# Altium schematic symbol library B-NT_CHIPS.SchLib: 157 symbols (part 4 of 4)
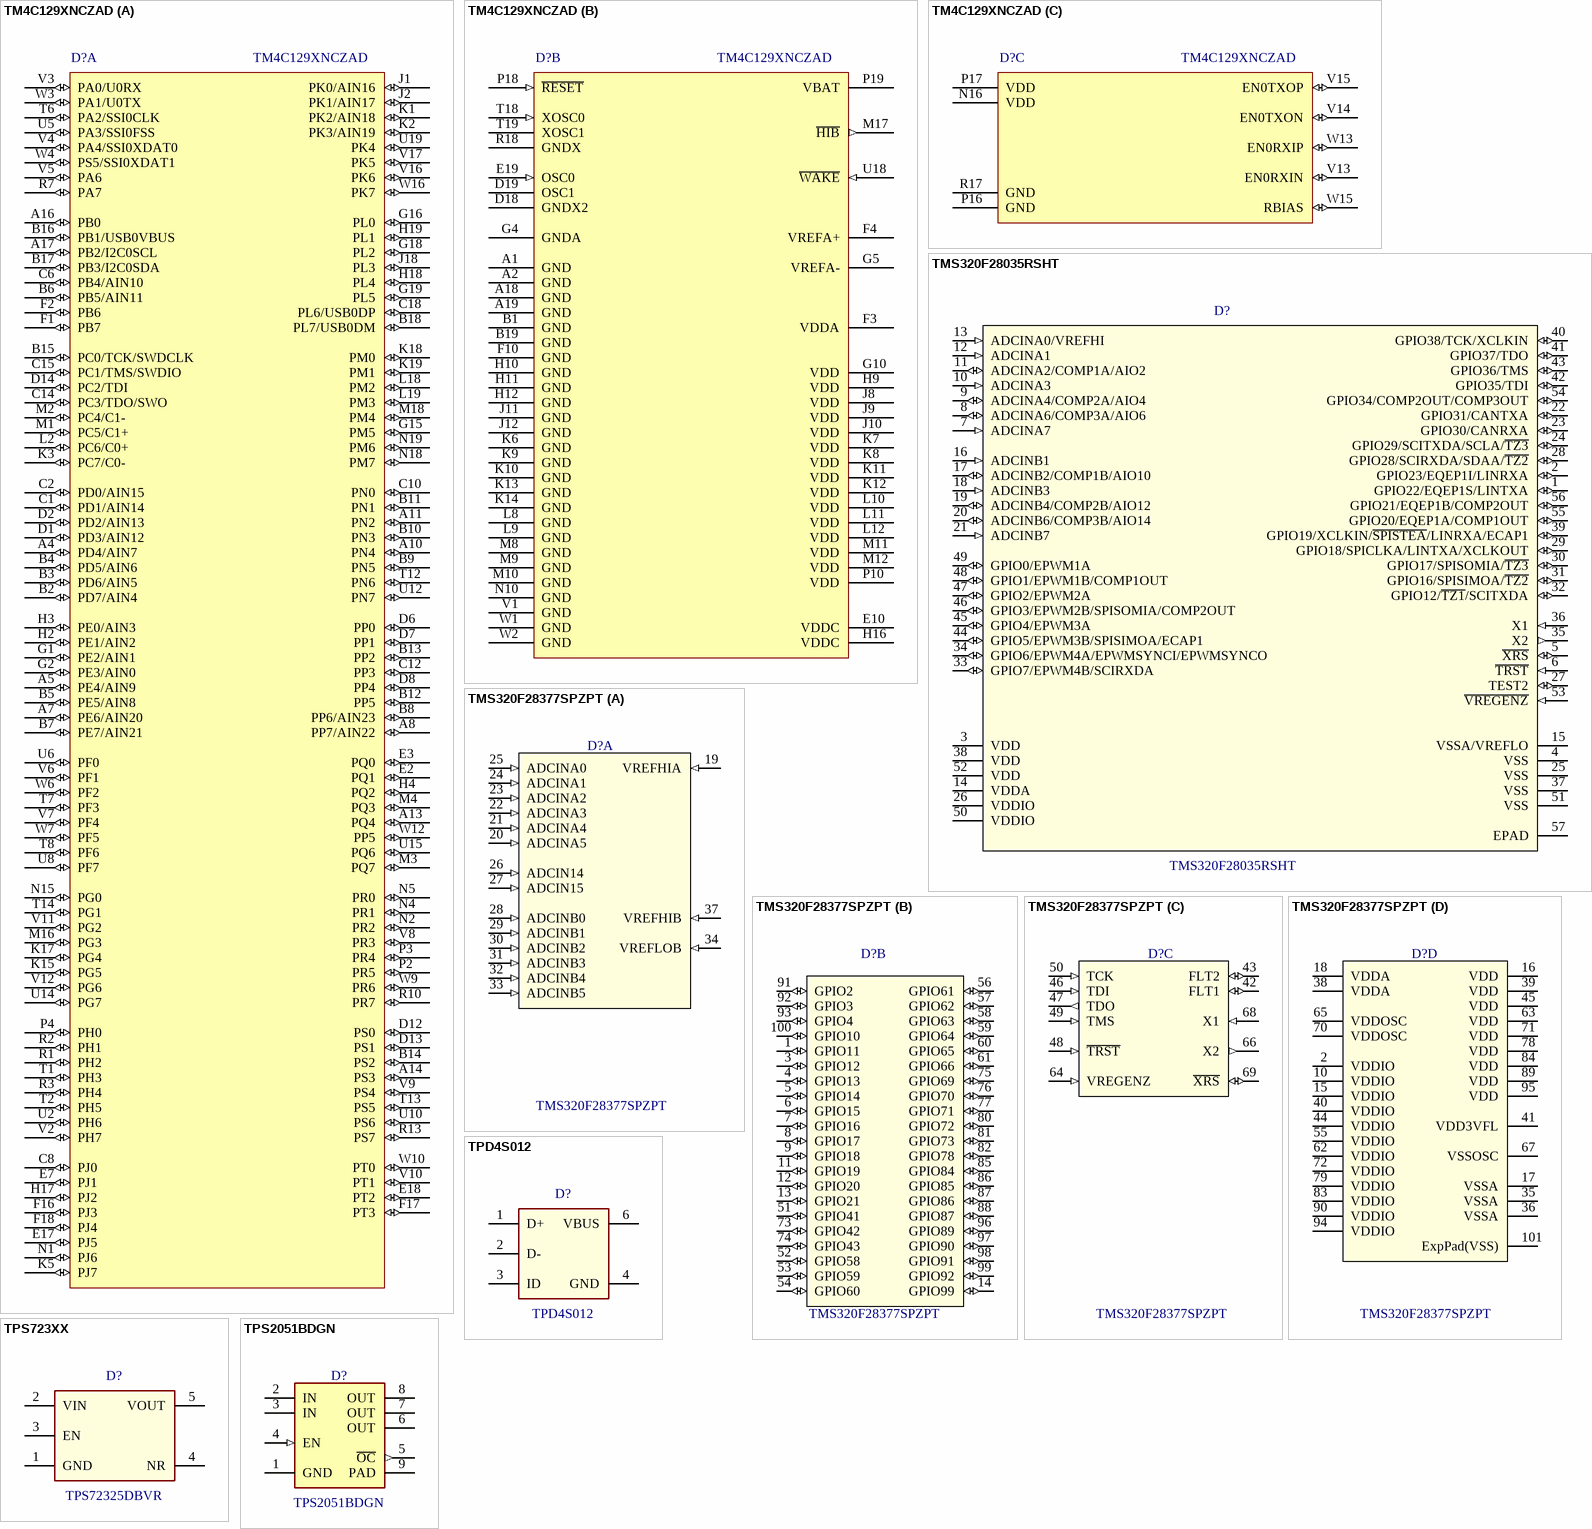
[diagram p12: symbols TM4C129XNCZAD to TPS2051BDGN]

## TMS320F28377SPZPT
designator D?  value TMS320F28377SPZPT
IC MCU 32BIT 1MB FLASH 100HTQFP; ValueManufacturer: Texas Instrument; PowerVoltage: 1.14 V ~ 3.47 V; ValueDescription: TMS320F28377SPZPT Микроконтроллер 1.14 V ~ 3.47 V  100-HTQFP (14x14); ValueType: Microcontroller; Price: 23.81; ComponentLink1Description: TI Datasheet; ComponentLink1URL: http://www.ti.com/lit/ds/symlink/tms320f28377s.pdf; Package: 100-HTQFP (14x14); ValueManufacturerPartNumber: TMS320F28377SPZPT; Operating Temperature: -40°C ~ 105°C (TJ); CheckDate: SC *
footprint PZP0100N_N
part A pins: 19 VREFHIA (in), 20 ADCINA5 (in), 21 ADCINA4 (in), 22 ADCINA3 (in), 23 ADCINA2 (in), 24 ADCINA1 (in), 25 ADCINA0 (in), 26 ADCIN14 (in), 27 ADCIN15 (in), 28 ADCINB0 (in), 29 ADCINB1 (in), 30 ADCINB2 (in), 31 ADCINB3 (in), 32 ADCINB4 (in), 33 ADCINB5 (in), 34 VREFLOB (in), 37 VREFHIB (in)
part B pins: 1 GPIO11 (io), 3 GPIO12 (io), 4 GPIO13 (io), 5 GPIO14 (io), 6 GPIO15 (io), 7 GPIO16 (io), 8 GPIO17 (io), 9 GPIO18 (io), 11 GPIO19 (io), 12 GPIO20 (io), 13 GPIO21 (io), 14 GPIO99 (io), 51 GPIO41 (io), 52 GPIO58 (io), 53 GPIO59 (io), 54 GPIO60 (io), 56 GPIO61 (io), 57 GPIO62 (io), 58 GPIO63 (io), 59 GPIO64 (io), 60 GPIO65 (io), 61 GPIO66 (io), 73 GPIO42 (io), 74 GPIO43 (io), 75 GPIO69 (io), 76 GPIO70 (io), 77 GPIO71 (io), 80 GPIO72 (io), 81 GPIO73 (io), 82 GPIO78 (io), 85 GPIO84 (io), 86 GPIO85 (io), 87 GPIO86 (io), 88 GPIO87 (io), 91 GPIO2 (io), 92 GPIO3 (io), 93 GPIO4 (io), 96 GPIO89 (io), 97 GPIO90 (io), 98 GPIO91 (io), 99 GPIO92 (io), 100 GPIO10 (io)
part C pins: 42 FLT1 (io), 43 FLT2 (io), 46 TDI (in), 47 TDO (out), 48 ~{TRST} (in), 49 TMS (in), 50 TCK (in), 64 VREGENZ (in), 66 X2 (out), 68 X1 (in), 69 ~{XRS} (io)
part D pins: 2 VDDIO (power), 10 VDDIO (power), 15 VDDIO (power), 16 VDD (power), 17 VSSA (power), 18 VDDA (power), 35 VSSA (power), 36 VSSA (power), 38 VDDA (power), 39 VDD (power), 40 VDDIO (power), 41 VDD3VFL (power), 44 VDDIO (power), 45 VDD (power), 55 VDDIO (power), 62 VDDIO (power), 63 VDD (power), 65 VDDOSC (power), 67 VSSOSC (power), 70 VDDOSC (power), 71 VDD (power), 72 VDDIO (power), 78 VDD (power), 79 VDDIO (power), 83 VDDIO (power), 84 VDD (power), 89 VDD (power), 90 VDDIO (power), 94 VDDIO (power), 95 VDD (power), 101 ExpPad(VSS) (power)

## TPD4S012
designator D?  value TPD4S012
4CH ESD SOLUTION W/CLAMP 6SON; ValueManufacturer: Texas Instruments; PowerVoltage: 6V; ValueDescription: TPD4S012  Выключатель нагрузки 6V  SSOT-6L (TSOT-23-6); ValueType: Load switch; Price: 0.77; ComponentLink1Description: Texas Instruments datasheet; ComponentLink1URL: http://www.ti.com/lit/ds/symlink/tpd4s012.pdf; Package: SSOT-6L (TSOT-23-6); ValueManufacturerPartNumber: TPD4S012; Operating Temperature: -40°C~85°C; CheckDate: SC
footprint DFN-6-1X1.45-0.5
pins: 1 D+, 2 D-, 3 ID, 4 GND, 6 VBUS

## TPS723XX
designator D?  value TPS72325DBVR
LDO Neg 200MA VINmIN=--10V SOT-23-5; ValueManufacturer: Texas Instrument; PowerVoltage: 250mA; TechSpec: -10V min; ValueDescription: TPS72325DBVR Линейный преобразователь 250mA  SOT-23-5 (SOT-753)  -10V min; ValueType: Linear Voltage Regulator; Price: 2.8; ComponentLink1Description: Texas Instrument Datasheet; ComponentLink1URL: http://www.ti.com/lit/ds/symlink/tps723.pdf; Package: SOT-23-5 (SOT-753); ValueManufacturerPartNumber: TPS72325DBVR; Operating Temperature: -40°C~85°C; CheckDate: SC 19.02.18
footprint SOT23-5-1.6X2.9-0.95 (SOT, 6-Leads, Body 2,9x1,6mm, Pitch 0,95mm)
pins: 1 GND, 2 VIN, 3 EN, 4 NR, 5 VOUT

## TPS2051BDGN
designator D?  value TPS2051BDGN
POWER SWITCH 0.5A SW 8-MSOP; ValueManufacturer: Texas Instruments; PowerVoltage: 2.7V~5.5V; ValueDescription: TPS2051BDGN Цифровой термодатчик  2.7V~5.5V  8-TSSOP (3.00mm); ValueType: Current Sense; Price: 1.55; ComponentLink1Description: Texas Instruments Datasheet; ComponentLink1URL: http://www.ti.com/lit/ds/symlink/tps2051b.pdf; Package: 8-TSSOP (3.00mm); ValueManufacturerPartNumber: TPS2051BDGN; Operating Temperature: -40°C~125°C; CheckDate: SC 21.10.17
footprint SSOP-8-3X3-0.65-T (MSOP, 8-Leads, Body 3,00x3,00mm, Pitch 0,65mm, IPC Medium Density)
pins: 1 GND, 2 IN, 3 IN, 4 EN (in), 5 ~{OC} (out), 6 OUT "Power", 7 OUT "Power", 8 OUT "Overtemperature Shutdown output", 9 PAD

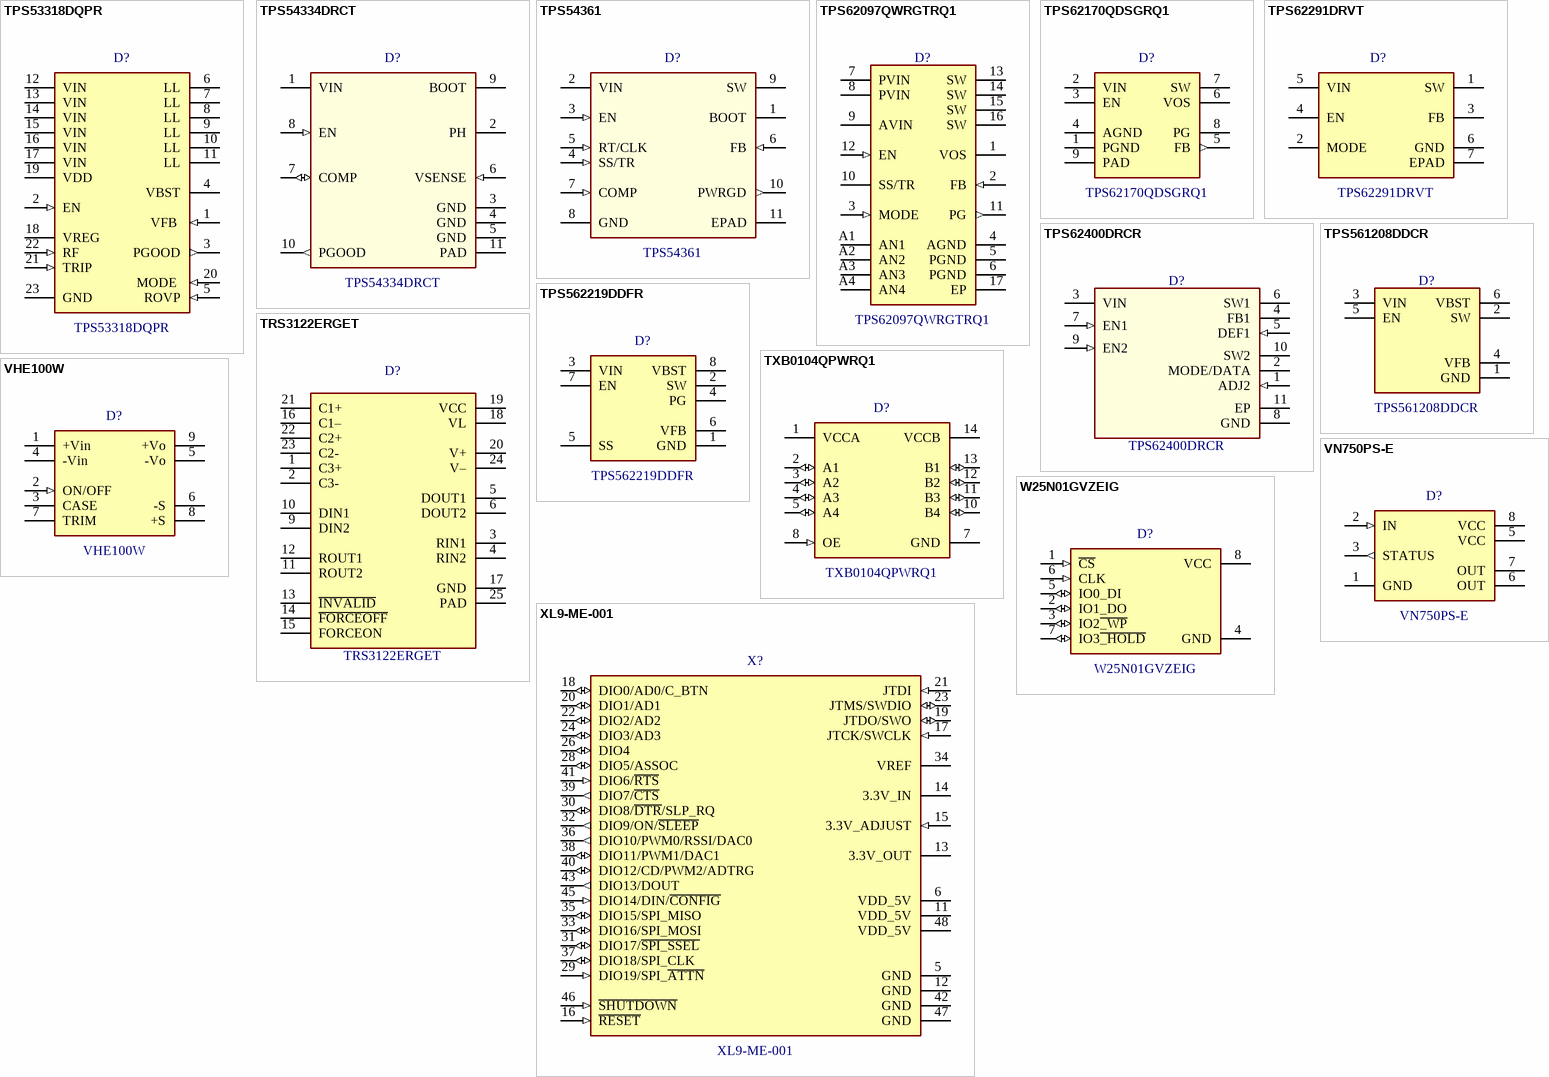
[diagram p9: symbols TPS53318DQPR to XL9-ME-001]

## TPS53318DQPR
designator D?  value TPS53318DQPR
IC REG BUCK ADJ 8A SYNC 22SON; ValueManufacturer: Texas Instruments; PowerVoltage: 0.6 V ~ 5.5 V; ValueDescription: TPS53318DQPR DC-DC преобразователь 0.6 V ~ 5.5 V  22-LSON (6x5); ValueType: DC DC Switching Regulator; Price: 6.47; ComponentLink1Description: Texas Instruments Datasheet; ComponentLink1URL: http://www.ti.com/lit/ds/symlink/tps53319.pdf; Package: 22-LSON (6x5); ValueManufacturerPartNumber: TPS53318DQPR; Operating Temperature: -40°C ~ 85°C (TA); CheckDate: SC *
footprint DFN-22-5X6-0.5-T (22-LFDFN Exposed Pad(22-LSON (6x5)))
pins: 1 VFB  (in), 2 EN (in), 3 PGOOD (out), 4 VBST, 5 ROVP (in), 6 LL, 7 LL, 8 LL, 9 LL, 10 LL, 11 LL, 12 VIN, 13 VIN, 14 VIN, 15 VIN, 16 VIN, 17 VIN, 18 VREG, 19 VDD , 20 MODE  (in), 21 TRIP  (in), 22 RF  (in), 23 GND

## TPS54334DRCT
designator D?  value TPS54334DRCT
Step Down 4.2V~28V Input voltage 3A 570kHz; ValueManufacturer: Texas Instruments; PowerVoltage: 4.2V~28V 3A; ValueDescription: TPS54334DRCT  Преобразователь напряжения 4.2V~28V 3A  10-VSON EP (3x3mm); ValueType: Power Management; Price: 2.8; ComponentLink1Description: Texas Instruments Datasheet; ComponentLink1URL: http://www.ti.com/lit/ds/symlink/tps54334.pdf; Package: 10-VSON EP (3x3mm); ValueManufacturerPartNumber: TPS54334DRCT; Operating Temperature: -40°C~85°C; CheckDate: SC 19.12.16
footprint SON-10-3X3-0.5-T-SPECIAL
pins: 1 VIN, 2 PH, 3 GND, 4 GND, 5 GND, 6 VSENSE (in), 7 COMP (io), 8 EN (in), 9 BOOT, 10 PGOOD (out), 11 PAD

## TPS54361
designator D?  value TPS54361
Step Down 4.2V~60V 3.5A 2.5MHz 10-WSON Exposed Pad; ValueManufacturer: Texas Instruments; ValueDescription: TPS54361  Преобразователь напряжения 4.2V~60V 3.5A  10-WSON EP (4x4mm); ValueType: Power Management; Price: 4.91; ComponentLink1Description: Texas Instruments Datasheet; ComponentLink1URL: http://www.ti.com/lit/ds/symlink/tps54361.pdf; Package: 10-WSON EP (4x4mm); PowerVoltage: 4.2V~60V 3.5A; ValueManufacturerPartNumber: TPS54361; Operating Temperature: -40°C~85°C; CheckDate: SC 22.10.17
footprint SON-10-4X4-0.8-T
pins: 1 BOOT, 2 VIN, 3 EN (in), 4 SS/TR (in), 5 RT/CLK (in), 6 FB (in), 7 COMP (in), 8 GND, 9 SW, 10 PWRGD (out), 11 EPAD

## TPS62097QWRGTRQ1
designator D?  value TPS62097QWRGTRQ1
Switching Voltage Regulators 2A Automotive Step-Down Converter in 3x3 QFN With Wettable Flanks; ValueManufacturer: Texas Instruments; PowerVoltage: 0.8V~6V; ValueDescription: TPS62097QWRGTRQ1 Регулятор напряжения  0.8V~6V  VQFN-16; Price: 3.44; ComponentLink1Description: Texas Instruments Datasheet; ComponentLink1URL: http://www.ti.com/lit/ds/symlink/tps62097-q1.pdf; Package: VQFN-16; ValueManufacturerPartNumber: TPS62097QWRGTRQ1; ValueType: Voltage Regulators; Operating Temperature: -40°C~125°C; CheckDate: delete
footprint VQFN-16-(4X4)-1 (Body 3.1x3.1x1mm(max))
pins: 1 VOS, 2 FB (in), 3 MODE (in), 4 AGND, 5 PGND, 6 PGND, 7 PVIN, 8 PVIN, 9 AVIN, 10 SS/TR, 11 PG (out), 12 EN (in), 13 SW, 14 SW, 15 SW, 16 SW, 17 EP, А1 AN1, А2 AN2, А3 AN3, А4 AN4

## TPS62170QDSGRQ1
designator D?  value TPS62170QDSGRQ1
IC REG BUCK ADJ 0.5A SYNC 8WSON; ValueManufacturer: Texas Instruments; PowerVoltage: 3V~17V; ValueDescription: TPS62170QDSGRQ1 Регулятор напряжения  3V~17V  8-WFDFN Exposed Pad; ValueType: Voltage Regulators; Price: 1.55; ComponentLink1Description: Texas Instruments Datasheet; ComponentLink1URL: http://www.ti.com/lit/ds/symlink/tps62170-q1.pdf; Package: 8-WFDFN Exposed Pad; ValueManufacturerPartNumber: TPS62170QDSGRQ1; Operating Temperature: -40°C~125°C; CheckDate: SC *
footprint SON-8-2X2-0.5-T
pins: 1 PGND, 2 VIN, 3 EN, 4 AGND, 5 FB (out), 6 VOS "Power", 7 SW "Overtemperature Shutdown output", 8 PG "Power", 9 PAD

## TPS62291DRVT
designator D?  value TPS62291DRVT
REG BUCK 3.3V 1A SYNC 6SON; ValueManufacturer: Texas Instruments; PowerVoltage: 2.3V~6V; ValueDescription: TPS62291DRVT  Преобразователь напряжения 2.3V~6V  6-SON; ValueType: Power Management; Price: 2.25; ComponentLink1Description: TI Datasheet; ComponentLink1URL: http://www.ti.com/lit/ds/symlink/tps62293.pdf; Package: 6-SON; Tolerance: 1A; ValueManufacturerPartNumber: TPS62291DRVT; Operating Temperature: -40°C~85°C; CheckDate: SC 21.10.17
footprint SON-6-2X2-0.65-T (SON, 6-Leads, Body 2,00x2,00mm, Pitch 0,65mm, Thermal Pad 1,60x0,89mm, IPC Medium Density)
pins: 1 SW, 2 MODE, 3 FB, 4 EN, 5 VIN, 6 GND, 7 EPAD

## TPS62400DRCR
designator D?  value TPS62400DRCR
IC REG BUCK ADJ DL SYNC 10SON; ValueManufacturer: Texas Instruments; PowerVoltage: 2.5V~6V, 400mA; ValueDescription: TPS62400DRCR  Преобразователь напряжения 2.5V~6V, 400mA  10-VSON (3x3); ValueType: DC DC Switching Regulator; Price: 1.79; ComponentLink1Description: Texas Instruments Datasheet; ComponentLink1URL: http://www.ti.com/lit/ds/symlink/tps62400.pdf; Package: 10-VSON (3x3); ValueManufacturerPartNumber: TPS62400DRCR; Operating Temperature: -40°C~85°C; CheckDate: SC *
footprint SON-10-3X3-0.5-T-SPECIAL
pins: 1 ADJ2 (in), 2 MODE/DATA, 3 VIN, 4 FB1, 5 DEF1 (in), 6 SW1, 7 EN1 (in), 8 GND, 9 EN2 (in), 10 SW2, 11 EP

## TPS561208DDCR
designator D?  value TPS561208DDCR
Switching Regulator IC Output TSOT-23-6; ValueManufacturer: Texas Instruments; PowerVoltage: 4.5V~17V; ValueDescription: TPS561208DDCR  Преобразователь напряжения 4.5V~17V  SOT-23-6 Thin, TSOT-23-6; ValueType: DC DC Switching Regulator; Price: 0.83; ComponentLink1Description: Texas Instruments Datasheet; ComponentLink1URL: http://www.ti.com/general/docs/lit/getliterature.tsp?genericPartNumber=tps561208&fileType=pdf; Package: SOT-23-6 Thin, TSOT-23-6; ValueManufacturerPartNumber: TPS561208DDCR; Operating Temperature: -40°C ~ 85°C (TA); CheckDate: SC *
footprint SOT23-6-1.6X2.9-0.95 (SOT, 6-Leads, Body 2,9x1,6mm, Pitch 0,95mm)
pins: 1 GND (power), 2 SW, 3 VIN, 4 VFB, 5 EN, 6 VBST

## TPS562219DDFR
designator D?  value TPS562219DDFR
IC REG BUCK ADJ 2A SYNC SOT23-8; ValueManufacturer: Texas Instruments; PowerVoltage: 4.5V~17V; ValueDescription: TPS562219DDFR  Преобразователь напряжения 4.5V~17V  SOT-23-8 Thin, TSOT-23-8; ValueType: DC DC Switching Regulator; Price: 1.61000; ComponentLink1Description: Texas Instruments Datasheet; ComponentLink1URL: http://www.ti.com/lit/ds/symlink/tps562219.pdf; Package: SOT-23-8 Thin, TSOT-23-8; ValueManufacturerPartNumber: TPS562219DDFR; Operating Temperature: -40°C ~ 85°C (TA); CheckDate: SC *
footprint SOT23-8-1.65X2.95-0.65 (SOT23, 8-Leads, Body 2,95x1,65mm, Pitch 0,65mm, IPC Medium Density)
pins: 1 GND (power), 2 SW, 3 VIN, 4 PG, 5 SS, 6 VFB, 7 EN, 8 VBST

## TRS3122ERGET
designator D?  value TRS3122ERGET
IC TXRX RS232 1.8V 24VQFN; ValueManufacturer: Texas Instruments; PowerVoltage: 1.65 V ~ 5.5 V; ValueDescription: TRS3122ERGET Приемопередатчик 1.65 V ~ 5.5 V  24-VQFN (4x4); ValueType: Transceiver; Price: 2.84; ComponentLink1Description: Texas Instruments Datasheet; ComponentLink1URL: http://www.ti.com/lit/ds/symlink/trs3122e.pdf; Package: 24-VQFN (4x4); ValueManufacturerPartNumber: TRS3122ERGET; Operating Temperature: -40°C ~ 85°C; CheckDate: SC *
footprint VQFN-24-4X4-0.5-T (QFN, 24-Leads with exposed die pad, Body 4.1x4.1mm (max), Pitch 0.50mm)
pins: 1 C3+, 2 C3- , 3 RIN1, 4 RIN2, 5 DOUT1, 6 DOUT2, 9 DIN2, 10 DIN1, 11 ROUT2, 12 ROUT1, 13 ~{INVALID}, 14 ~{FORCEOFF}, 15 FORCEON , 16 C1–, 17 GND, 18 VL, 19 VCC, 20 V+, 21 C1+, 22 C2+, 23 C2-, 24 V–, 25 PAD

## TXB0104QPWRQ1
designator D?  value TXB0104QPWRQ1
IC VOLT-LEVEL TRANSLATOR 14TSSOP; ValueManufacturer: Texas Instruments; PowerVoltage: 1.2V~3.6V / 1.65V~5.5V; ValueDescription: TXB0104QPWRQ1 Преобразователь логических уровней Texas Instruments  1.2V~3.6V / 1.65V~5.5V; ValueType: Level Converter; Price: 1.55; ComponentLink1Description: Texas Instruments Datasheet; ComponentLink1URL: http://www.ti.com/lit/ds/symlink/txb0104-q1.pdf; Package: 14-TSSOP (6.4x4.4x1.2mm); ValueManufacturerPartNumber: TXB0104QPWRQ1; Operating Temperature: -40°C~125°C; CheckDate: SC *
footprint TSSOP-14-4.4X5-0.65
pins: 1 VCCA, 2 A1 (io), 3 A2 (io), 4 A3 (io), 5 A4 (io), 7 GND, 8 OE (in), 10 B4 (io), 11 B3 (io), 12 B2 (io), 13 B1 (io), 14 VCCB

## VHE100W
designator D?  value VHE100W
Isolated DC/DC Module 100W; ValueManufacturer: CUI Inc.; Tolerance: 88.5%; ValueDescription: VHE100W Преобразователь напряжения CUI Inc.  100W; ValueType: DC-DC; Price: 170; ComponentLink1Description: CUI Inc Datasheet; ComponentLink1URL: http://www.cui.com/product/resource/vhe100w.pdf; Package: 8-DIP (58.4x22.8x8.9); PowerVoltage: 100W; ValueManufacturerPartNumber: VHE100W; Operating Temperature: -40°C~105°C; CheckDate: SC *
footprint VHE100W ((61.0mm x 57.9mm x 12.7mm))
pins: 1 +Vin, 2 ON/OFF (in), 3 CASE, 4 -Vin, 5 -Vo, 6 -S, 7 TRIM, 8 +S, 9 +Vo

## VN750PS-E
designator D?  value VN750PS-E
DRIVER HIGHSIDE 8-SOIC; ValueManufacturer: STMicroelectronics; PowerVoltage: 5.5-36V; Tolerance: 6A; ValueDescription: VN750PS-E Цифровой силовой ключ 5.5-36V  8-SOIC (3.90mm); ValueType: High-side driver; Price: 1.83; ComponentLink1Description: STMicroelectronics Datasheet; ComponentLink1URL: http://www.st.com/content/ccc/resource/technical/document/datasheet/36/97/9d/05/ce/5b/49/c2/CD00256288.pdf/files/CD00256288.pdf/jcr:content/translations/en.CD00256288.pdf; Package: 8-SOIC (3.90mm); ValueManufacturerPartNumber: VN750PS-E; Operating Temperature: -40°C~150°C; CheckDate: SC 21.10.17
footprint SOP-8-3.9X5-1.27 (SOIC, 8-Leads, Body 5x4mm, Pitch 1.27mm, IPC Medium Density)
pins: 1 GND "Ground", 2 IN (in) "Input", 3 STATUS (out) "Status", 5 VCC "Power", 6 OUT "Output", 7 OUT "Output", 8 VCC "Power"

## W25N01GVZEIG
designator D?  value W25N01GVZEIG
FLASH 1GBIT 104MHZ 8-WDFN Exposed Pad; ValueManufacturer: Winbond Electronics; PowerVoltage: 2.7V~3.6V; TechSpec: 1Gb; ValueDescription: W25N01GVZEIG Flash Память 2.7V~3.6V  8-WSON (8x6)  1Gb; Price: 3.7; ComponentLink1Description: Winbond Electronics Datasheet; ComponentLink1URL: https://www.winbond.com/resource-files/w25n01gv%20revg%20032116.pdf; Package: 8-WSON (8x6); ValueManufacturerPartNumber: W25N01GVZEIG; ValueType: flash; Operating Temperature: -40°C~85°C; CheckDate: SC 21.10.17
footprint SON-8-8X6-1.27-T
pins: 1 ~{CS} (in), 2 IO1_DO (io), 3 IO2~{_WP} (io), 4 GND, 5 IO0_DI (io), 6 CLK (in), 7 IO3~{_HOLD} (io), 8 VCC

## XL9-ME-001
designator X?  value XL9-ME-001
XLR PRO MODULE, 900MHZ, 1W, P2MP; ValueManufacturer: Digi International; PowerVoltage: 3.8V~5.5V; TechSpec: 902MHz ~ 928MHz; ValueDescription: Разъем 1775838-2 для радиомодуля XL9-ME-001 3.8V~5.5V  Card Edge Mini PCI Exprress  902MHz ~ 928MHz; ValueType: Radio Module; Price: 249.0; ComponentLink1Description: Digi International Datasheet; ComponentLink1URL: https://www.digi.com/pdf/ds_xlrpro-module.pdf; Package: Card Edge Mini PCI Exprress; ValueManufacturerPartNumber: XL9-ME-001; Operating Temperature: -40°C~85°C; CheckDate: SC 23.10.17
footprint XL9-ME-001_MODULE
pins: 5 GND, 6 VDD_5V, 11 VDD_5V, 12 GND, 13 3.3V_OUT, 14 3.3V_IN, 15 3.3V_ADJUST (in), 16 ~{RESET} (in), 17 JTCK/SWCLK (in), 18 DIO0/AD0/C_BTN (io), 19 JTDO/SWO (io), 20 DIO1/AD1 (io), 21 JTDI (in), 22 DIO2/AD2 (io), 23 JTMS/SWDIO (io), 24 DIO3/AD3 (io), 26 DIO4 (io), 28 DIO5/ASSOC (io), 29 DIO19/SPI_~{ATTN} (in), 30 DIO8/~{DTR}/SLP_RQ (io), 31 DIO17/~{SPI_SSEL} (io), 32 DIO9/ON/~{SLEEP} (out), 33 DIO16/SPI_MOSI (io), 34 VREF (power), 35 DIO15/SPI_MISO (io), 36 DIO10/PWM0/RSSI/DAC0 (out), 37 DIO18/SPI_CLK (io), 38 DIO11/PWM1/DAC1 (io), 39 DIO7/~{CTS} (out), 40 DIO12/CD/PWM2/ADTRG (io), 41 DIO6/~{RTS} (in), 42 GND, 43 DIO13/DOUT (out), 45 DIO14/DIN/~{CONFIG} (in), 46 ~{SHUTDOWN} (in), 47 GND, 48 VDD_5V